# EAGLE library part XC878_HSKA (library MDB_HOME)
Infineon XC878 µC im TQFP64 - Symbol mit gruppierten ports
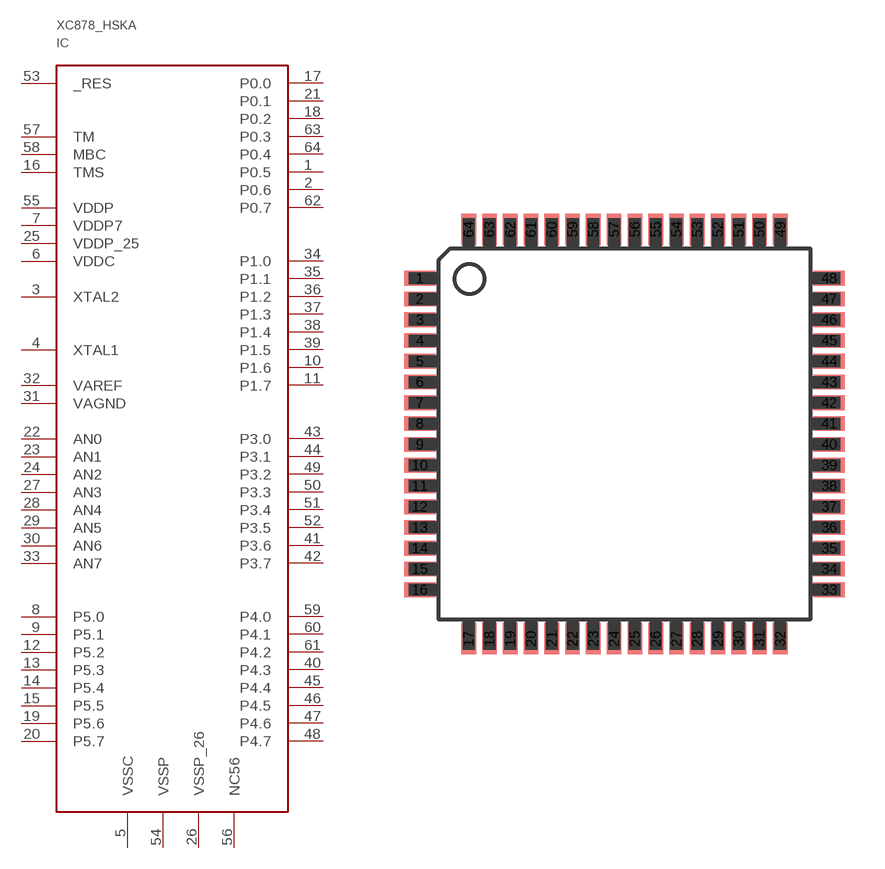
[diagram p15: symbol with the pads of TQFP64; footprint TQFP64]

Designator prefix IC

## XC878_HSKA_MDB  [TQFP64]
1  P0.5
2  P0.6
3  XTAL2
4  XTAL1
5  VSSC
6  VDDC
7  VDDP7
8  P5.0
9  P5.1
10  P1.6
11  P1.7
12  P5.2
13  P5.3
14  P5.4
15  P5.5
16  TMS
17  P0.0
18  P0.2
19  P5.6
20  P5.7
21  P0.1
22  AN0
23  AN1
24  AN2
25  VDDP_25
26  VSSP_26
27  AN3
28  AN4
29  AN5
30  AN6
31  VAGND
32  VAREF
33  AN7
34  P1.0
35  P1.1
36  P1.2
37  P1.3
38  P1.4
39  P1.5
40  P4.3
41  P3.6
42  P3.7
43  P3.0
44  P3.1
45  P4.4
46  P4.5
47  P4.6
48  P4.7
49  P3.2
50  P3.3
51  P3.4
52  P3.5
53  _RES
54  VSSP
55  VDDP
56  NC56
57  TM
58  MBC
59  P4.0
60  P4.1
61  P4.2
62  P0.7
63  P0.3
64  P0.4

## Footprint TQFP64 (pad centres in mm)
Thin Quad Flat Pack
smd 1.194 x 0.559: 1 -7.76,5.905; 2 -7.76,5.118; 3 -7.76,4.331; 4 -7.76,3.543; 5 -7.76,2.756; 6 -7.76,1.968; 7 -7.76,1.181; 8 -7.76,0.394; 9 -7.76,-0.394; 10 -7.76,-1.181; 11 -7.76,-1.968; 12 -7.76,-2.756; 13 -7.76,-3.543; 14 -7.76,-4.331; 15 -7.76,-5.118; 16 -7.76,-5.905; 33 7.76,-5.905; 34 7.76,-5.118; 35 7.76,-4.331; 36 7.76,-3.543; 37 7.76,-2.756; 38 7.76,-1.968; 39 7.76,-1.181; 40 7.76,-0.394; 41 7.76,0.394; 42 7.76,1.181; 43 7.76,1.968; 44 7.76,2.756; 45 7.76,3.543; 46 7.76,4.331; 47 7.76,5.118; 48 7.76,5.905
smd 0.559 x 1.194: 17 -5.905,-7.76; 18 -5.118,-7.76; 19 -4.331,-7.76; 20 -3.543,-7.76; 21 -2.756,-7.76; 22 -1.968,-7.76; 23 -1.181,-7.76; 24 -0.394,-7.76; 25 0.394,-7.76; 26 1.181,-7.76; 27 1.968,-7.76; 28 2.756,-7.76; 29 3.543,-7.76; 30 4.331,-7.76; 31 5.118,-7.76; 32 5.905,-7.76; 49 5.905,7.76; 50 5.118,7.76; 51 4.331,7.76; 52 3.543,7.76; 53 2.756,7.76; 54 1.968,7.76; 55 1.181,7.76; 56 0.394,7.76; 57 -0.394,7.76; 58 -1.181,7.76; 59 -1.968,7.76; 60 -2.756,7.76; 61 -3.543,7.76; 62 -4.331,7.76; 63 -5.118,7.76; 64 -5.905,7.76